# Altium schematic symbol library RK73B1JTTD100J.SchLib: 2 symbols
Pins are listed as number, name and electrical type; pins without a type are passive.

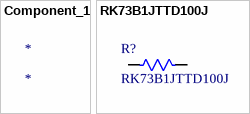
[diagram p0: symbols Component_1 to RK73B1JTTD100J]

## Component_1
designator *

## RK73B1JTTD100J
designator R?
No Description Available; Mfr_Name: KOA Speer; Copyright: Copyright (C) 2022 Ultra Librarian. All rights reserved.; Manufacturer_Part_Number: RK73B1JTTD100J; RefDes: RefDes; Type: DEV
footprint RES_RK73B_1J_KOA